# Altium schematic symbol library mainboard_v1.SchLib: 20 symbols
Pins are listed as number, name and electrical type; pins without a type are passive.

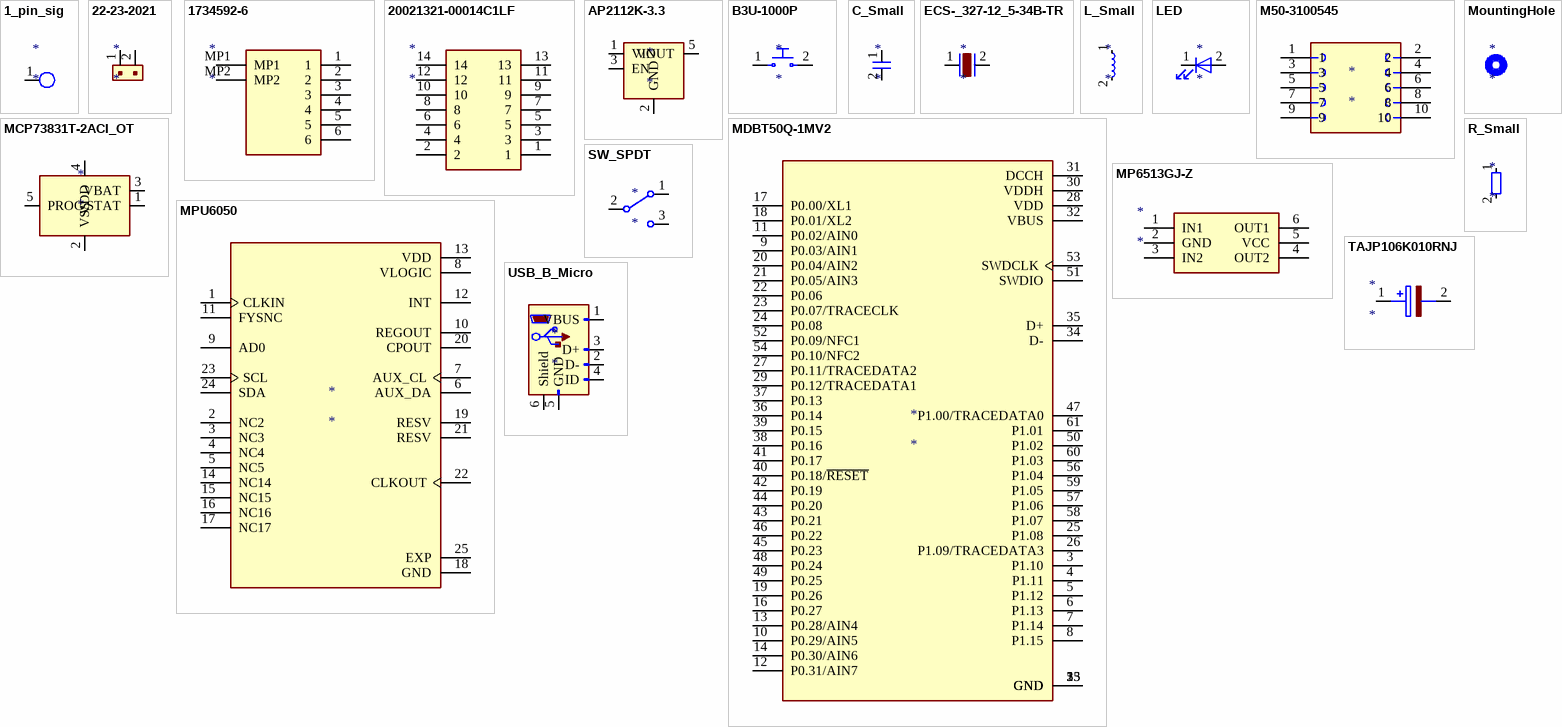
[diagram p0: symbols 1_pin_sig to USB_B_Micro]

## 1_pin_sig
designator *
pins: 1

## 22-23-2021
designator *
pins: 1, 2

## 1734592-6
designator *
pins: 1, 2, 3, 4, 5, 6, MP1, MP2

## 20021321-00014C1LF
designator *
pins: 1, 2, 3, 4, 5, 6, 7, 8, 9, 10, 11, 12, 13, 14

## AP2112K-3.3
designator *
pins: 1 VIN, 2 GND, 3 EN, 4 NC hidden, 5 VOUT

## B3U-1000P
designator *
pins: 1, 2

## C_Small
designator *
pins: 1, 2

## ECS-_327-12_5-34B-TR
designator *
pins: 1, 2

## L_Small
designator *
pins: 1, 2

## LED
designator *
pins: 1 K, 2 A

## M50-3100545
designator *
pins: 1, 2, 3, 4, 5, 6, 7, 8, 9, 10

## MCP73831T-2ACI_OT
designator *
pins: 1 STAT, 2 VSS, 3 VBAT, 4 VDD, 5 PROG

## MDBT50Q-1MV2
designator *
pins: 1 GND, 2 GND, 3 P1.10, 4 P1.11, 5 P1.12, 6 P1.13, 7 P1.14, 8 P1.15, 9 P0.03/AIN1, 10 P0.29/AIN5, 11 P0.02/AIN0, 12 P0.31/AIN7, 13 P0.28/AIN4, 14 P0.30/AIN6, 15 GND, 16 P0.27, 17 P0.00/XL1, 18 P0.01/XL2, 19 P0.26, 20 P0.04/AIN2, 21 P0.05/AIN3, 22 P0.06, 23 P0.07/TRACECLK, 24 P0.08, 25 P1.08, 26 P1.09/TRACEDATA3, 27 P0.11/TRACEDATA2, 28 VDD, 29 P0.12/TRACEDATA1, 30 VDDH, 31 DCCH, 32 VBUS, 33 GND, 34 D-, 35 D+, 36 P0.14, 37 P0.13, 38 P0.16, 39 P0.15, 40 P0.18/~{RESET}, 41 P0.17, 42 P0.19, 43 P0.21, 44 P0.20, 45 P0.23, 46 P0.22, 47 P1.00/TRACEDATA0, 48 P0.24, 49 P0.25, 50 P1.02, 51 SWDIO, 52 P0.09/NFC1, 53 SWDCLK, 54 P0.10/NFC2, 55 GND, 56 P1.04, 57 P1.06, 58 P1.07, 59 P1.05, 60 P1.03, 61 P1.01

## MountingHole
designator *

## MP6513GJ-Z
designator *
pins: 1 IN1, 2 GND, 3 IN2, 4 OUT2, 5 VCC, 6 OUT1

## MPU6050
designator *
pins: 1 CLKIN, 2 NC2, 3 NC3, 4 NC4, 5 NC5, 6 AUX_DA, 7 AUX_CL, 8 VLOGIC, 9 AD0, 10 REGOUT, 11 FYSNC, 12 INT, 13 VDD, 14 NC14, 15 NC15, 16 NC16, 17 NC17, 18 GND, 19 RESV, 20 CPOUT, 21 RESV, 22 CLKOUT, 23 SCL, 24 SDA, 25 EXP

## R_Small
designator *
pins: 1, 2

## SW_SPDT
designator *
pins: 1 A, 2 B, 3 C

## TAJP106K010RNJ
designator *
pins: 1, 2

## USB_B_Micro
designator *
pins: 1 VBUS, 2 D-, 3 D+, 4 ID, 5 GND, 6 Shield